# EAGLE library part MCP4921 (library old-4ms-main-parts)
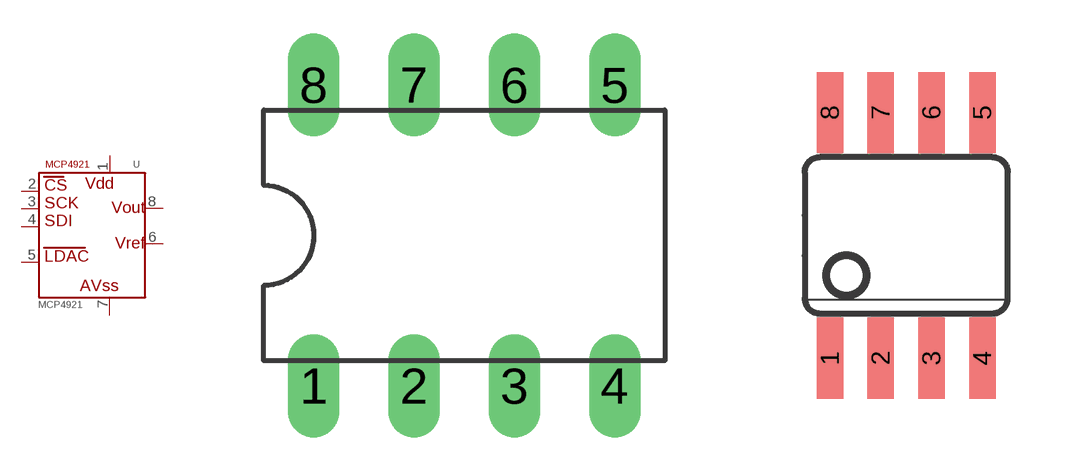
[diagram p13: symbol with the pads of DIP8; footprints DIP8, SO08]

Designator prefix U

## MCP4921-E/P  [DIP8]
1  VDD  pwr
2  /CS  in
3  SCK  in
4  SDI  in
5  /LDAC  in
6  VREF  in
7  GND  pwr
8  VOUT  out

## MCP4921-E/SN  [SO08]
Pads as for DIP8

## Footprint DIP8 (pad centres in mm)
drill 0.8 long: 1 -3.81,-3.81; 2 -1.27,-3.81; 3 1.27,-3.81; 4 3.81,-3.81; 5 3.81,3.81; 6 1.27,3.81; 7 -1.27,3.81; 8 -3.81,3.81

## Footprint SO08 (pad centres in mm)
SO08
smd 0.66 x 2.032: 1 -1.905,-3.073; 2 -0.635,-3.073; 3 0.635,-3.073; 4 1.905,-3.073; 5 1.905,3.073; 6 0.635,3.073; 7 -0.635,3.073; 8 -1.905,3.073